# Altium footprint library EDR - Water Meter.PcbLib: 16 footprints
Each footprint in its own frame and in the unit in brackets; x right, y up, seen from the top. Pads: shape width x height; smd on the part's side, far side on the other; paste and mask are expansions set on the pad; w line width, h text height; cw(c..) or ccw(c..) is an arc to the next point about the centre after c.
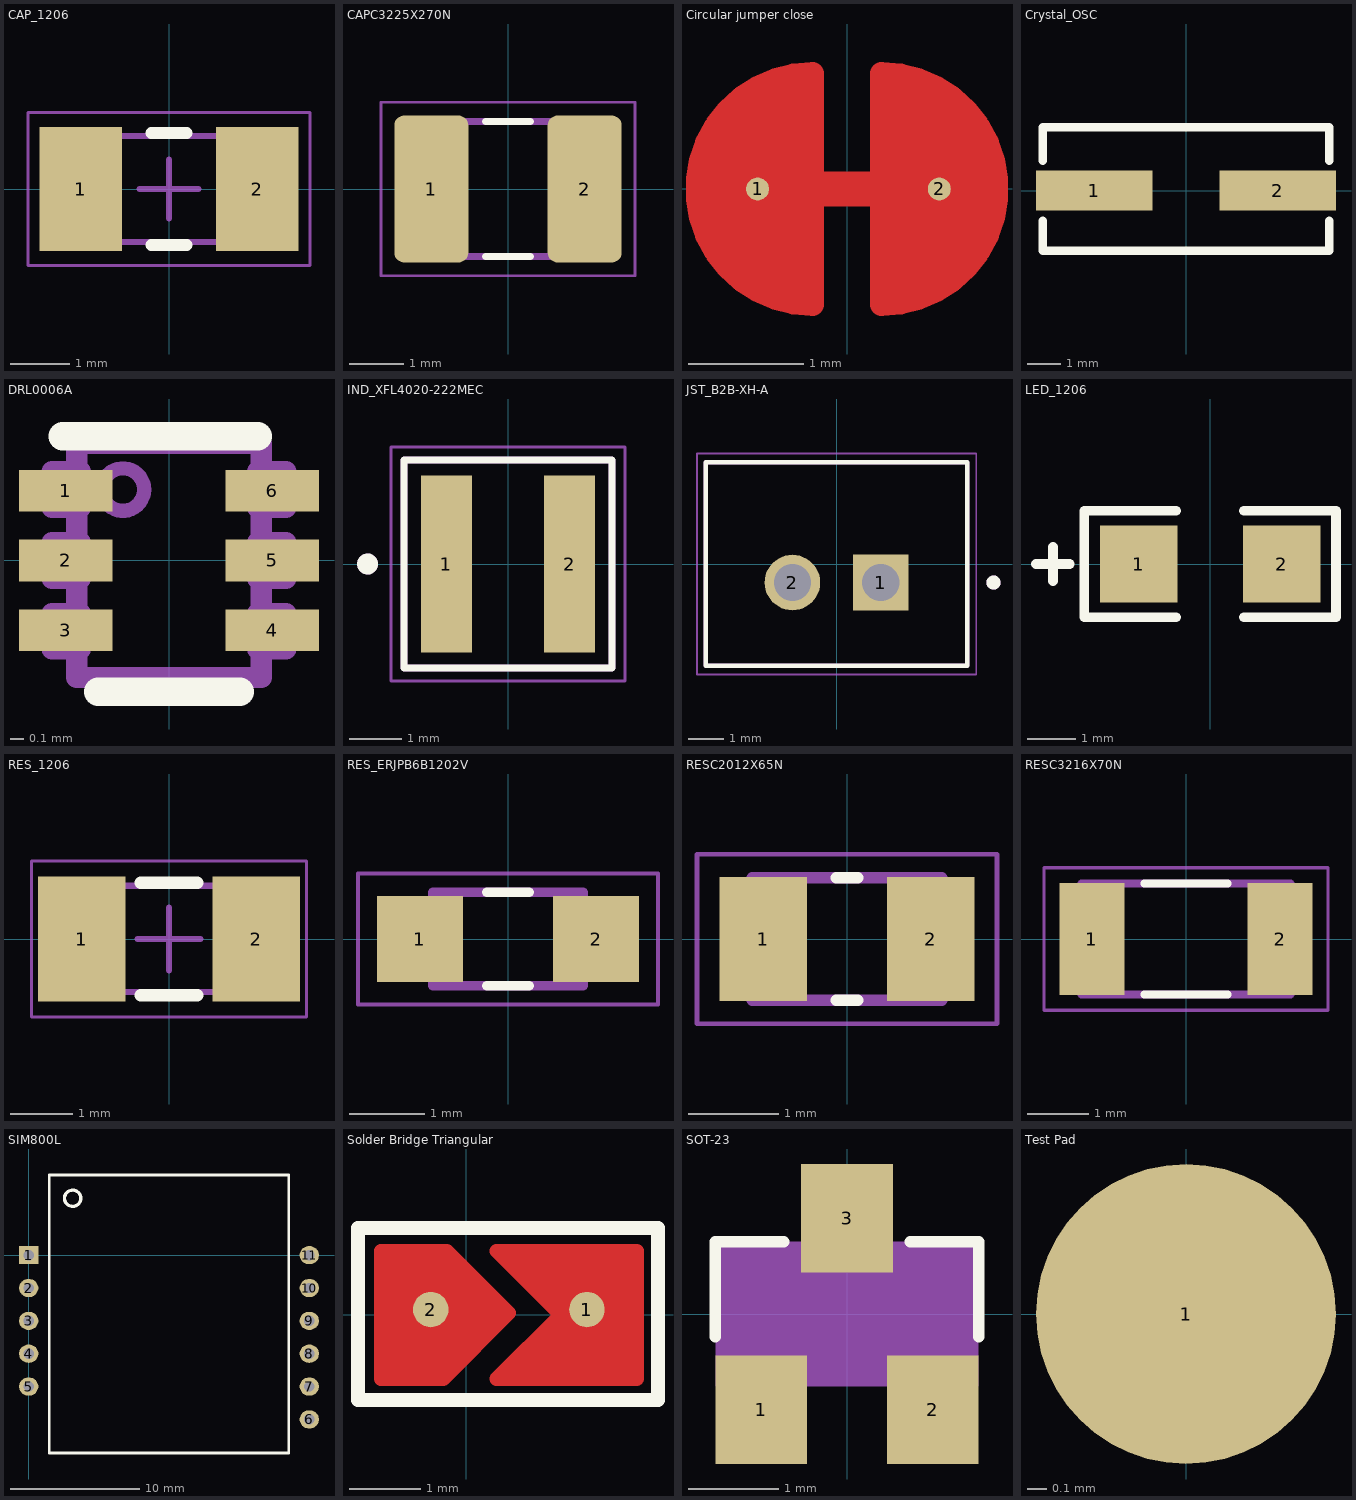
[diagram p0: the footprints below, top view; thin cyan lines are the x and y axes]

## CAP_1206 [mm] "SMD capacitor 3.2mm × 1.6mm size (1206)"
height 1.2
pads (2):
  rect 1.4x2.1 smd: 1(-1.5,0) 2(1.5,0)
Top Overlay:
  lines w0.2: -0.3,-0.95 0.3,-0.95 ; -0.3,0.95 0.3,0.95
Mechanical 13:
  lines w0.1: -1.2,-0.9 1.2,-0.9 1.2,0.9 -1.2,0.9 -1.2,-0.9
Mechanical 15:
  lines w0.05: -2.4,-1.3 2.4,-1.3 2.4,1.3 -2.4,1.3 -2.4,-1.3
  lines w0.1: -0.5,0 0.5,0 ; 0,-0.5 0,0.5
3D body "CAP_1206.step": height 1.2, standoff 0, extent -1.2,-0.9 1.2,0.9

## CAPC3225X270N [mm]
pads (2):
  rrect25% 1.37x2.72 smd: 1(-1.421,0) 2(1.421,0)
Top Overlay:
  lines w0.127: -0.42,-1.25 0.42,-1.25 ; -0.42,1.25 0.42,1.25
Mechanical 13:
  lines w0.127: -1.6,-1.25 -1.6,1.25 1.6,1.25 1.6,-1.25 -1.6,-1.25
Mechanical 15:
  lines w0.05: -2.356,-1.61 -2.356,1.61 2.356,1.61 2.356,-1.61 -2.356,-1.61
3D body "step_temp.STEP": height 2.7, standoff 0, extent -1.6,-1.25 1.6,1.25

## Circular jumper close [mm]
pads (2):
  round 0.2 smd mask+0: 1(-0.775,0) 2(0.8,0)
Top Layer:
  region: 0.3,1 0.5,1 0.6,0.9 0.7,0.9 0.9,0.7 1,0.7 1,0.6 1.3,0.3 1.3,-0.1 1.2,-0.2 1.2,-0.4 1,-0.6 1,-0.7 0.9,-0.8 0.8,-0.8 0.6,-1 0.3,-1 0.3,0
  region: -0.3,-1 -0.5,-1 -0.6,-0.9 -0.7,-0.9 -0.9,-0.7 -1,-0.7 -1,-0.6 -1.3,-0.3 -1.3,0.1 -1.2,0.2 -1.2,0.4 -1,0.6 -1,0.7 -0.9,0.8 -0.8,0.8 -0.6,1 -0.3,1 -0.3,0
  lines w0.2: -0.3,-1 cw(c-0.3,0) -0.3,1 -0.3,-1 ; 0.3,-1 ccw(c0.3,0) 0.3,1 0.3,-1
  lines w0.3: -0.775,0 0.8,0
Top Solder:
  circle w1.25: c0.3,0 r0.5
  circle w1.25: c-0.3,0 r0.5
  lines w0.2: -0.4,0.3 -0.4,-0.2 -0.3,-0.3 ; -0.325,-1.025 0.275,-1.025 ; -0.25,1.025 0.35,1.025

## Crystal_OSC [mm]
pads (2):
  rect 3.5x1.2 smd: 1(-2.75,0) 2(2.75,0)
Top Overlay:
  lines w0.254: -4.3,-0.9 -4.3,-1.8 4.3,-1.8 4.3,-0.9 ; -4.3,0.9 -4.3,1.9 4.3,1.9 4.3,0.9

## DRL0006A [mm]
pads (6):
  rect 0.67x0.3 smd: 1(-0.74,0.5) 2(-0.74,0) 3(-0.74,-0.5) 4(0.74,-0.5) 5(0.74,0) 6(0.74,0.5)
Top Overlay:
  lines w0.203: -0.762,0.889 0.635,0.889 ; -0.508,-0.94 0.508,-0.94
Mechanical 13:
  lines w0.102: -0.483,0.508 ccw(c-0.33,0.508) -0.178,0.508 ccw(c-0.33,0.508) -0.483,0.508
  lines w0.152: -0.66,-0.635 -0.66,-0.838 0.66,-0.838 0.66,-0.635 ; -0.66,-0.381 -0.66,-0.127 ; -0.66,0.381 -0.66,0.127 ; -0.66,0.635 -0.66,0.838 0.66,0.838 0.66,0.635 ; 0.66,0.381 0.66,-0.381 ; -0.66,0.127 -0.838,0.127 -0.838,-0.127 -0.635,-0.127 -0.635,0.127 -0.66,0.127 ; 0.66,-0.635 0.635,-0.635 0.635,-0.381 0.66,-0.381 ; 0.66,-0.635 0.838,-0.635 0.838,-0.381 0.66,-0.381 ; 0.66,0.635 0.635,0.635 0.635,0.381 0.838,0.381 0.838,0.635 0.66,0.635 ; -0.838,-0.635 -0.838,-0.381 -0.635,-0.381 -0.635,-0.635 -0.838,-0.635 ; -0.838,0.381 -0.838,0.635 -0.635,0.635 -0.635,0.381 -0.838,0.381 ; 0.635,-0.127 0.838,-0.127 0.838,0.127 0.635,0.127 0.635,-0.127
3D body "step_temp.STEP": height 0.6, standoff 0, extent -0.8,-0.8 0.8,0.8

## IND_XFL4020-222MEC [mm]
height 2.1
pads (2):
  rect 0.98x3.4 smd: 1(-1.185,0) 2(1.185,0)
Top Overlay:
  circle w0.2: c-2.7,0 r0.1
  lines w0.127: -2,-2 -2,2 2,2 2,-2 -2,-2
Mechanical 13:
  circle w0.2: c-2.7,0 r0.1
  lines w0.127: -2,-2 2,-2 2,2 -2,2 -2,-2
Mechanical 15:
  lines w0.05: -2.25,-2.25 2.25,-2.25 2.25,2.25 -2.25,2.25 -2.25,-2.25
3D body "step_temp.STEP": height 2.1, standoff 0, extent -2,-2 2,2

## JST_B2B-XH-A [mm]
height 7
pads (2):
  rect 1.575x1.575 / inner round 1.575 / far side rect 1.575x1.575 hole 1.05: 1(1.25,-0.525)
  round 1.575 hole 1.05: 2(-1.25,-0.525)
Top Overlay:
  circle w0.2: c4.44,-0.525 r0.1
  lines w0.127: -3.7,-2.875 -3.7,2.875 3.7,2.875 3.7,-2.875 -3.7,-2.875
Mechanical 13:
  circle w0.2: c4.44,-0.525 r0.1
  lines w0.127: -3.7,-2.875 -3.7,2.875 3.7,2.875 3.7,-2.875 -3.7,-2.875
Mechanical 15:
  lines w0.05: -3.95,-3.125 3.95,-3.125 3.95,3.125 -3.95,3.125 -3.95,-3.125

## LED_1206 [mm] "LED SMD 1206 size footprit"
pads (2):
  rect 1.6x1.6 smd: 1(-1.475,0) 2(1.475,0)
Top Overlay:
  lines w0.2: -3.6,0 -2.9,0 ; -3.25,-0.35 -3.25,0.35 -3.25,0 ; -0.7,-1.1 -2.6,-1.1 -2.6,1.1 -0.7,1.1 ; 0.7,-1.1 2.6,-1.1 2.6,1.1 0.7,1.1
3D body "LTST-C230KFKT.STEP": height 1.12, standoff 0.02, extent -1.5,-0.8 1.7,0.8

## RES_1206 [mm] "SMD 3.2mm × 1.6mm resistor (1206)"
height 0.65
pads (2):
  rect 1.4x2 smd: 1(-1.4,0) 2(1.4,0)
Top Overlay:
  lines w0.2: -0.45,-0.9 0.45,-0.9 ; -0.45,0.9 0.45,0.9
Mechanical 13:
  lines w0.1: -1.6,-0.85 1.6,-0.85 1.6,0.85 -1.6,0.85 -1.6,-0.85
Mechanical 15:
  lines w0.05: -2.2,-1.25 2.2,-1.25 2.2,1.25 -2.2,1.25 -2.2,-1.25
  lines w0.1: -0.5,0 0.5,0 ; 0,-0.5 0,0.5
3D body "RES_1206.step": height 0.65, standoff 0, extent -1.6,-0.85 1.6,0.85

## RES_ERJPB6B1202V [mm]
height 0.55
pads (2):
  rect 1.15x1.15 smd: 1(-1.175,0) 2(1.175,0)
Top Overlay:
  lines w0.127: -0.28,-0.625 0.28,-0.625 ; -0.28,0.625 0.28,0.625
Mechanical 13:
  lines w0.127: -1,-0.625 1,-0.625 1,0.625 -1,0.625 -1,-0.625
Mechanical 15:
  lines w0.05: -2,-0.875 2,-0.875 2,0.875 -2,0.875 -2,-0.875

## RESC2012X65N [mm]
pads (2):
  rect 0.97x1.38 smd paste+0 mask+0.102: 1(-0.93,0) 2(0.93,0)
Top Overlay:
  lines w0.127: -0.12,-0.68 0.12,-0.68 ; -0.12,0.68 0.12,0.68
Mechanical 13:
  lines w0.127: -1.05,-0.68 -1.05,0.68 1.05,0.68 1.05,-0.68 -1.05,-0.68
Mechanical 15:
  lines w0.05: -1.665,-0.94 -1.665,0.94 1.665,0.94 1.665,-0.94 -1.665,-0.94
3D body "step_temp.STEP": height 0.65, standoff 0, extent -1,-0.625 1,0.625

## RESC3216X70N [mm]
pads (2):
  rect 1.06x1.82 smd paste+0 mask+0.102: 1(-1.528,0) 2(1.528,0)
Top Overlay:
  lines w0.127: -0.68,-0.9 0.68,-0.9 ; -0.68,0.9 0.68,0.9
Mechanical 13:
  lines w0.127: -1.7,-0.9 1.7,-0.9 1.7,0.9 -1.7,0.9 -1.7,-0.9
Mechanical 15:
  lines w0.05: -2.308,-1.158 2.308,-1.158 2.308,1.158 -2.308,1.158 -2.308,-1.158
3D body "step_temp.STEP": height 0.7, standoff 0, extent -1.6,-0.8 1.6,0.8

## SIM800L [mm]
pads (11):
  rect 1.5x1.4 hole 0.8: 1(0,0)
  oval 1.5x1.4 hole 0.8: 2(0,-2.54) 3(0,-5.08) 4(0,-7.62) 5(0,-10.16) 6(21.7,-12.7) 7(21.7,-10.16) 8(21.7,-7.62) 9(21.7,-5.08) 10(21.7,-2.54) 11(21.7,0)
Top Overlay:
  circle w0.254: c3.4,4.4 r0.632
  lines w0.2: 1.585,-15.3 20.115,-15.3 20.115,6.2 7.355,6.2 1.585,6.2 1.585,-15.3

## Solder Bridge Triangular [mm]
pads (2):
  round 0.5 smd mask+0: 1(1.7,0.075) 2(-0.5,0.075)
Top Layer:
  region: -1.2,0.9 -0.2,0.9 0.7,0 -0.2,-0.9 -1.2,-0.9
  region: 0.425,0.9 2.325,0.9 2.325,-0.9 0.425,-0.9 1.325,0
  lines w0.2: 0.675,0.9 2.4,0.9 2.4,-0.9 0.425,-0.9 1.325,0 0.425,0.9 2.225,0.9 ; -1.2,-0.9 -1.2,0.9 -0.275,0.9 0.6,0.025 -0.325,-0.9 -1.2,-0.9
Top Overlay:
  lines w0.2: -1.525,0.4 -1.525,-1.2 ; -1.525,0.425 -1.525,0.625 -1.525,1.025 -1.525,1.225 ; -1.5,-1.175 -1.525,-1.2 ; -1.5,1.225 2.45,1.225 2.7,1.225 2.7,0.625 2.7,-1.2 -1.525,-1.2
Top Solder:
  rectangle: -1.325,-1.03 2.525,1.04

## SOT-23 [mm]
pads (3):
  rect 1.016x1.2 smd: 1(-0.95,-1.06) 2(0.95,-1.06) 3(0,1.06)
Top Overlay:
  lines w0.127: -1.46,-0.254 -1.46,0.8 -0.699,0.8 ; 0.699,0.8 1.46,0.8 1.46,-0.254
Mechanical 13:
  region: -0.711,-1.424 -1.169,-1.424 -1.169,-0.838 -0.711,-0.838
  region: 1.168,-1.423 0.712,-1.423 0.712,-0.838 1.168,-0.838
  region: 0.229,0.839 -0.229,0.839 -0.229,1.422 0.229,1.422
Mechanical 15:
  region: 1.45,-0.801 -1.452,-0.801 -1.452,0.8 1.45,0.8
3D body "step_temp.STEP": height 1.3, standoff 0, extent -1.45,-1.4 1.45,1.4

## Test Pad [mil]
pads (1):
  round 60 smd: 1(0,0)